# Altium footprint library 排针-排母.PcbLib: 177 footprints (part 10 of 12)
Each footprint in its own frame and in the unit in brackets; x right, y up, seen from the top. Pads: shape width x height; smd on the part's side, far side on the other; paste and mask are expansions set on the pad; w line width, h text height; cw(c..) or ccw(c..) is an arc to the next point about the centre after c.
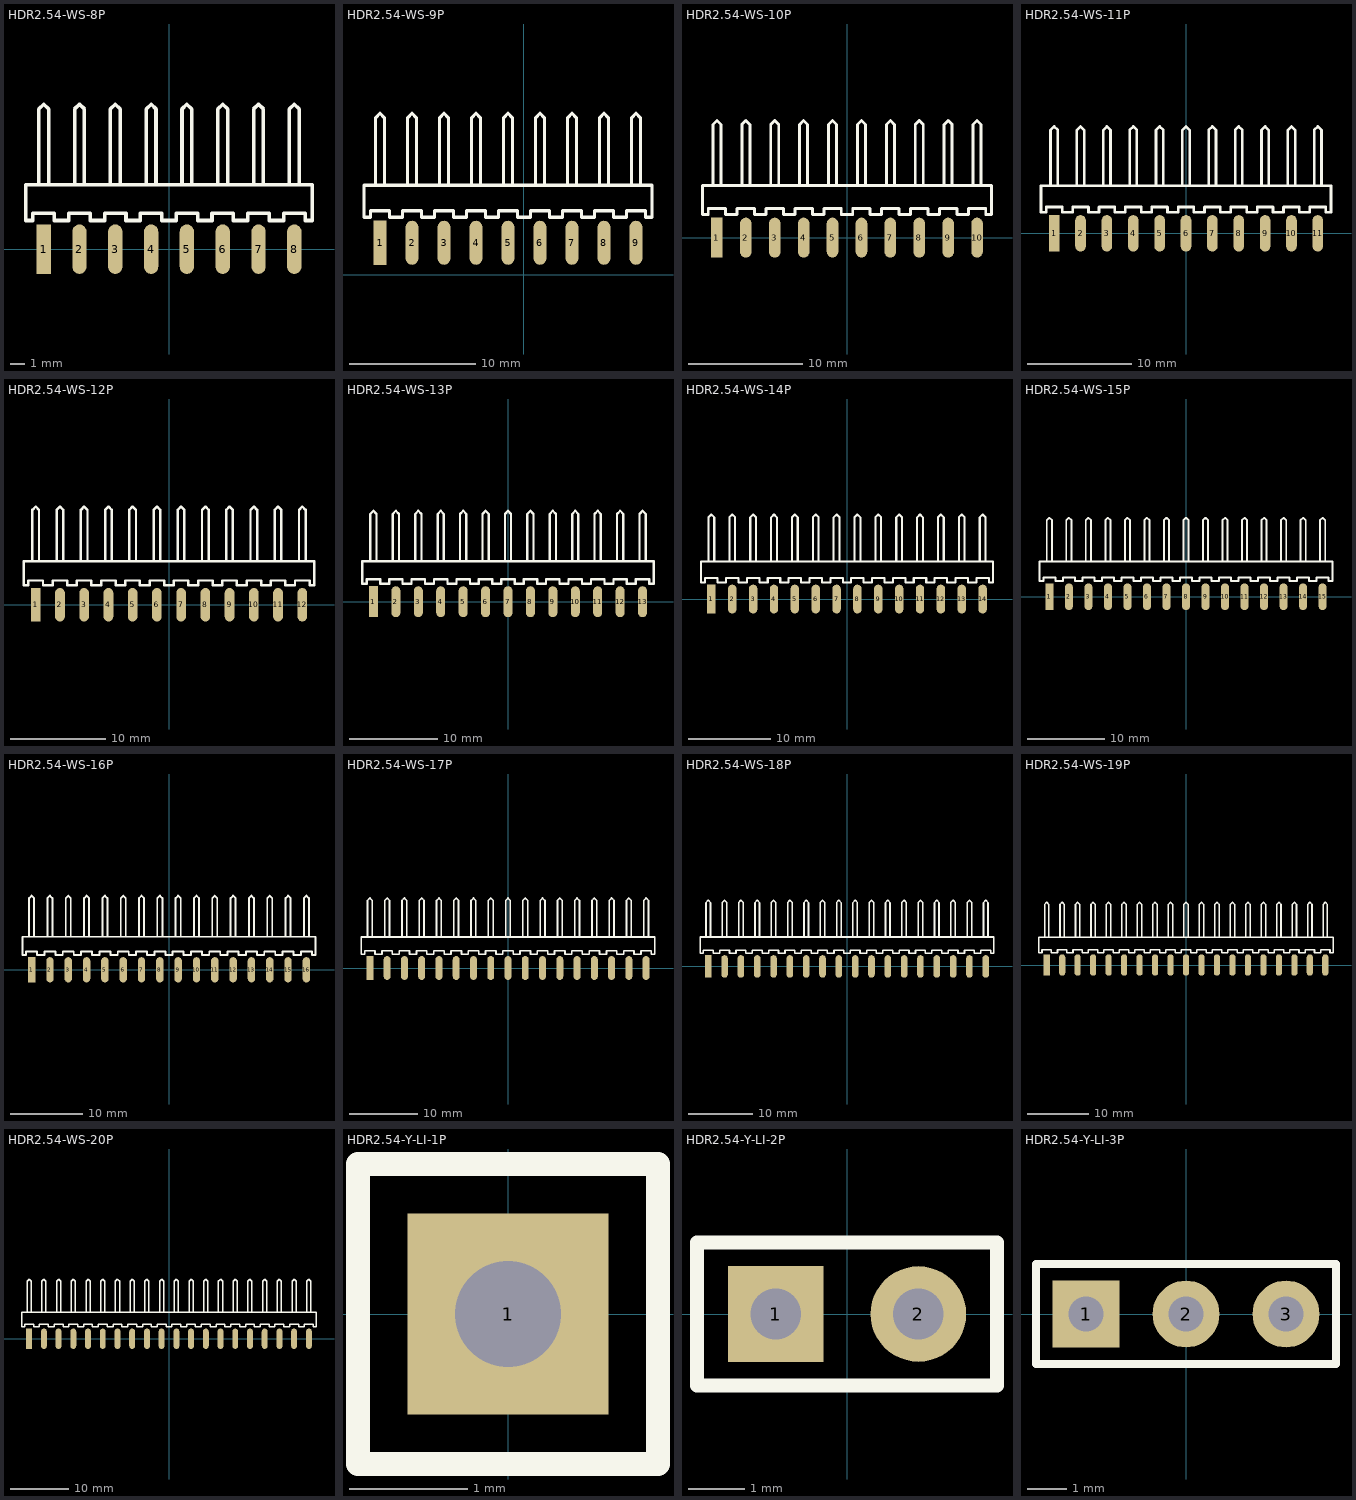
[diagram p9: the footprints below, top view; thin cyan lines are the x and y axes]

## HDR2.54-WS-8P [mm] "8P卧式贴片排针2.54"
pads (8):
  rect 1.02x3.5 smd: 1(-8.89,0)
  oval 1.02x3.5 smd: 2(-6.35,0) 3(-3.81,0) 4(-1.27,0) 5(1.27,0) 6(3.81,0) 7(6.35,0) 8(8.89,0)
Top Overlay:
  lines w0.254: -9.24,4.572 -9.24,9.8 -9.24,9.937 -8.89,10.287 -8.54,9.937 -8.54,9.8 -8.54,4.572 ; -6.7,4.572 -6.7,9.8 -6.7,9.937 -6.35,10.287 -6,9.937 -6,9.8 -6,4.572 ; -4.16,4.572 -4.16,9.8 -4.16,9.937 -3.81,10.287 -3.46,9.937 -3.46,9.8 -3.46,4.572 ; -1.62,4.572 -1.62,9.8 -1.62,9.937 -1.27,10.287 -0.92,9.937 -0.92,9.8 -0.92,4.572 ; 0.92,4.572 0.92,9.8 0.92,9.937 1.27,10.287 1.62,9.937 1.62,9.8 1.62,4.572 ; 3.46,4.572 3.46,9.8 3.46,9.937 3.81,10.287 4.16,9.937 4.16,9.8 4.16,4.572 ; 6,4.572 6,9.8 6,9.937 6.35,10.287 6.7,9.937 6.7,9.8 6.7,4.572 ; 8.54,4.572 8.54,9.8 8.54,9.937 8.89,10.287 9.24,9.937 9.24,9.8 9.24,4.572 ; -10.16,2.032 -9.652,2.032 -9.652,2.54 -8.382,2.54 -8.128,2.54 -8.128,2.032 -7.62,2.032 -7.112,2.032 -7.112,2.54 -5.842,2.54 -5.588,2.54 -5.588,2.032 -5.08,2.032 -4.572,2.032 -4.572,2.54 -3.302,2.54 -3.048,2.54 -3.048,2.032 -2.54,2.032 -2.032,2.032 -2.032,2.54 -0.762,2.54 -0.508,2.54 -0.508,2.032 0,2.032 0.508,2.032 0.508,2.54 1.778,2.54 2.032,2.54 2.032,2.032 2.54,2.032 3.048,2.032 3.048,2.54 4.318,2.54 4.572,2.54 4.572,2.032 5.08,2.032 5.588,2.032 5.588,2.54 6.858,2.54 7.112,2.54 7.112,2.032 7.62,2.032 8.128,2.032 8.128,2.54 9.398,2.54 9.652,2.54 9.652,2.032 10.16,2.032 10.16,4.572 7.62,4.572 5.08,4.572 2.54,4.572 0,4.572 -2.54,4.572 -5.08,4.572 -7.62,4.572 -10.16,4.572 -10.16,2.032
3D body: height 2.54, standoff -0.01, extent 0,-0.76 2.54,10.34
3D body: height 2.54, standoff -0.01, extent -2.54,-0.76 0,10.34
3D body: height 2.54, standoff -0.01, extent -5.08,-0.76 -2.54,10.34
3D body: height 2.54, standoff -0.01, extent -7.62,-0.76 -5.08,10.34
3D body: height 2.54, standoff -0.01, extent -10.16,-0.76 -7.62,10.34
3D body: height 2.54, standoff -0.01, extent 2.54,-0.76 5.08,10.34
3D body: height 2.54, standoff -0.01, extent 5.08,-0.76 7.62,10.34
3D body: height 2.54, standoff -0.01, extent 7.62,-0.76 10.16,10.34

## HDR2.54-WS-9P [mm] "9P卧式贴片排针2.54"
pads (9):
  rect 1.02x3.5 smd: 1(-11.43,2.54)
  oval 1.02x3.5 smd: 2(-8.89,2.54) 3(-6.35,2.54) 4(-3.81,2.54) 5(-1.27,2.54) 6(1.27,2.54) 7(3.81,2.54) 8(6.35,2.54) 9(8.89,2.54)
Top Overlay:
  lines w0.254: -11.78,7.112 -11.78,12.34 -11.78,12.477 -11.43,12.827 -11.08,12.477 -11.08,12.34 -11.08,7.112 ; -9.24,7.112 -9.24,12.34 -9.24,12.477 -8.89,12.827 -8.54,12.477 -8.54,12.34 -8.54,7.112 ; -6.7,7.112 -6.7,12.34 -6.7,12.477 -6.35,12.827 -6,12.477 -6,12.34 -6,7.112 ; -4.16,7.112 -4.16,12.34 -4.16,12.477 -3.81,12.827 -3.46,12.477 -3.46,12.34 -3.46,7.112 ; -1.62,7.112 -1.62,12.34 -1.62,12.477 -1.27,12.827 -0.92,12.477 -0.92,12.34 -0.92,7.112 ; 0.92,7.112 0.92,12.34 0.92,12.477 1.27,12.827 1.62,12.477 1.62,12.34 1.62,7.112 ; 3.46,7.112 3.46,12.34 3.46,12.477 3.81,12.827 4.16,12.477 4.16,12.34 4.16,7.112 ; 6,7.112 6,12.34 6,12.477 6.35,12.827 6.7,12.477 6.7,12.34 6.7,7.112 ; 8.54,7.112 8.54,12.34 8.54,12.477 8.89,12.827 9.24,12.477 9.24,12.34 9.24,7.112 ; -12.7,4.572 -12.7,7.112 -10.16,7.112 -7.62,7.112 -5.08,7.112 -2.54,7.112 0,7.112 2.54,7.112 5.08,7.112 7.62,7.112 10.16,7.112 10.16,4.572 9.652,4.572 9.652,5.08 9.398,5.08 8.128,5.08 8.128,4.572 7.62,4.572 7.112,4.572 7.112,5.08 6.858,5.08 5.588,5.08 5.588,4.572 5.08,4.572 4.572,4.572 4.572,5.08 4.318,5.08 3.048,5.08 3.048,4.572 2.54,4.572 2.032,4.572 2.032,5.08 1.778,5.08 0.508,5.08 0.508,4.572 0,4.572 -0.508,4.572 -0.508,5.08 -0.762,5.08 -2.032,5.08 -2.032,4.572 -2.54,4.572 -3.048,4.572 -3.048,5.08 -3.302,5.08 -4.572,5.08 -4.572,4.572 -5.08,4.572 -5.588,4.572 -5.588,5.08 -5.842,5.08 -7.112,5.08 -7.112,4.572 -7.62,4.572 -8.128,4.572 -8.128,5.08 -8.382,5.08 -9.652,5.08 -9.652,4.572 -10.16,4.572 -10.668,4.572 -10.668,5.08 -10.922,5.08 -12.192,5.08 -12.192,4.572 -12.7,4.572
3D body: height 2.54, standoff -0.01, extent 7.62,1.78 10.16,12.88
3D body: height 2.54, standoff -0.01, extent 5.08,1.78 7.62,12.88
3D body: height 2.54, standoff -0.01, extent 2.54,1.78 5.08,12.88
3D body: height 2.54, standoff -0.01, extent 0,1.78 2.54,12.88
3D body: height 2.54, standoff -0.01, extent -12.7,1.78 -10.16,12.88
3D body: height 2.54, standoff -0.01, extent -10.16,1.78 -7.62,12.88
3D body: height 2.54, standoff -0.01, extent -7.62,1.78 -5.08,12.88
3D body: height 2.54, standoff -0.01, extent -5.08,1.78 -2.54,12.88
3D body: height 2.54, standoff -0.01, extent -2.54,1.78 0,12.88

## HDR2.54-WS-10P [mm] "10P卧式贴片排针2.54"
pads (10):
  rect 1.02x3.5 smd: 1(-11.43,0)
  oval 1.02x3.5 smd: 2(-8.89,0) 3(-6.35,0) 4(-3.81,0) 5(-1.27,0) 6(1.27,0) 7(3.81,0) 8(6.35,0) 9(8.89,0) 10(11.43,0)
Top Overlay:
  lines w0.254: -11.78,4.572 -11.78,9.8 -11.78,9.937 -11.43,10.287 -11.08,9.937 -11.08,9.8 -11.08,4.572 ; -9.24,4.572 -9.24,9.8 -9.24,9.937 -8.89,10.287 -8.54,9.937 -8.54,9.8 -8.54,4.572 ; -6.7,4.572 -6.7,9.8 -6.7,9.937 -6.35,10.287 -6,9.937 -6,9.8 -6,4.572 ; -4.16,4.572 -4.16,9.8 -4.16,9.937 -3.81,10.287 -3.46,9.937 -3.46,9.8 -3.46,4.572 ; -1.62,4.572 -1.62,9.8 -1.62,9.937 -1.27,10.287 -0.92,9.937 -0.92,9.8 -0.92,4.572 ; 0.92,4.572 0.92,9.8 0.92,9.937 1.27,10.287 1.62,9.937 1.62,9.8 1.62,4.572 ; 3.46,4.572 3.46,9.8 3.46,9.937 3.81,10.287 4.16,9.937 4.16,9.8 4.16,4.572 ; 6,4.572 6,9.8 6,9.937 6.35,10.287 6.7,9.937 6.7,9.8 6.7,4.572 ; 8.54,4.572 8.54,9.8 8.54,9.937 8.89,10.287 9.24,9.937 9.24,9.8 9.24,4.572 ; 11.08,4.572 11.08,9.8 11.08,9.937 11.43,10.287 11.78,9.937 11.78,9.8 11.78,4.572 ; -12.7,2.032 -12.7,4.572 -10.16,4.572 -7.62,4.572 -5.08,4.572 -2.54,4.572 0,4.572 2.54,4.572 5.08,4.572 7.62,4.572 10.16,4.572 12.7,4.572 12.7,2.032 12.192,2.032 12.192,2.54 11.938,2.54 10.668,2.54 10.668,2.032 10.16,2.032 9.652,2.032 9.652,2.54 9.398,2.54 8.128,2.54 8.128,2.032 7.62,2.032 7.112,2.032 7.112,2.54 6.858,2.54 5.588,2.54 5.588,2.032 5.08,2.032 4.572,2.032 4.572,2.54 4.318,2.54 3.048,2.54 3.048,2.032 2.54,2.032 2.032,2.032 2.032,2.54 1.778,2.54 0.508,2.54 0.508,2.032 0,2.032 -0.508,2.032 -0.508,2.54 -0.762,2.54 -2.032,2.54 -2.032,2.032 -2.54,2.032 -3.048,2.032 -3.048,2.54 -3.302,2.54 -4.572,2.54 -4.572,2.032 -5.08,2.032 -5.588,2.032 -5.588,2.54 -5.842,2.54 -7.112,2.54 -7.112,2.032 -7.62,2.032 -8.128,2.032 -8.128,2.54 -8.382,2.54 -9.652,2.54 -9.652,2.032 -10.16,2.032 -10.668,2.032 -10.668,2.54 -10.922,2.54 -12.192,2.54 -12.192,2.032 -12.7,2.032
3D body: height 2.54, standoff -0.01, extent 10.16,-0.76 12.7,10.34
3D body: height 2.54, standoff -0.01, extent 7.62,-0.76 10.16,10.34
3D body: height 2.54, standoff -0.01, extent 5.08,-0.76 7.62,10.34
3D body: height 2.54, standoff -0.01, extent 2.54,-0.76 5.08,10.34
3D body: height 2.54, standoff -0.01, extent 0,-0.76 2.54,10.34
3D body: height 2.54, standoff -0.01, extent -12.7,-0.76 -10.16,10.34
3D body: height 2.54, standoff -0.01, extent -10.16,-0.76 -7.62,10.34
3D body: height 2.54, standoff -0.01, extent -7.62,-0.76 -5.08,10.34
3D body: height 2.54, standoff -0.01, extent -5.08,-0.76 -2.54,10.34
3D body: height 2.54, standoff -0.01, extent -2.54,-0.76 0,10.34

## HDR2.54-WS-11P [mm] "11P卧式贴片排针2.54"
pads (11):
  rect 1.02x3.5 smd: 1(-12.7,0)
  oval 1.02x3.5 smd: 2(-10.16,0) 3(-7.62,0) 4(-5.08,0) 5(-2.54,0) 6(0,0) 7(2.54,0) 8(5.08,0) 9(7.62,0) 10(10.16,0) 11(12.7,0)
Top Overlay:
  lines w0.254: -13.05,4.572 -13.05,9.8 -13.05,9.937 -12.7,10.287 -12.35,9.937 -12.35,9.8 -12.35,4.572 ; -10.51,4.572 -10.51,9.8 -10.51,9.937 -10.16,10.287 -9.81,9.937 -9.81,9.8 -9.81,4.572 ; -7.97,4.572 -7.97,9.8 -7.97,9.937 -7.62,10.287 -7.27,9.937 -7.27,9.8 -7.27,4.572 ; -5.43,4.572 -5.43,9.8 -5.43,9.937 -5.08,10.287 -4.73,9.937 -4.73,9.8 -4.73,4.572 ; -2.89,4.572 -2.89,9.8 -2.89,9.937 -2.54,10.287 -2.19,9.937 -2.19,9.8 -2.19,4.572 ; -0.35,4.572 -0.35,9.8 -0.35,9.937 0,10.287 0.35,9.937 0.35,9.8 0.35,4.572 ; 2.19,4.572 2.19,9.8 2.19,9.937 2.54,10.287 2.89,9.937 2.89,9.8 2.89,4.572 ; 4.73,4.572 4.73,9.8 4.73,9.937 5.08,10.287 5.43,9.937 5.43,9.8 5.43,4.572 ; 7.27,4.572 7.27,9.8 7.27,9.937 7.62,10.287 7.97,9.937 7.97,9.8 7.97,4.572 ; 9.81,4.572 9.81,9.8 9.81,9.937 10.16,10.287 10.51,9.937 10.51,9.8 10.51,4.572 ; 12.35,4.572 12.35,9.8 12.35,9.937 12.7,10.287 13.05,9.937 13.05,9.8 13.05,4.572 ; -13.97,2.032 -13.97,4.572 -11.43,4.572 -8.89,4.572 -6.35,4.572 -3.81,4.572 -1.27,4.572 1.27,4.572 3.81,4.572 6.35,4.572 8.89,4.572 11.43,4.572 13.97,4.572 13.97,2.032 13.462,2.032 13.462,2.54 13.208,2.54 11.938,2.54 11.938,2.032 11.43,2.032 10.922,2.032 10.922,2.54 10.668,2.54 9.398,2.54 9.398,2.032 8.89,2.032 8.382,2.032 8.382,2.54 8.128,2.54 6.858,2.54 6.858,2.032 6.35,2.032 5.842,2.032 5.842,2.54 5.588,2.54 4.318,2.54 4.318,2.032 3.81,2.032 3.302,2.032 3.302,2.54 3.048,2.54 1.778,2.54 1.778,2.032 1.27,2.032 0.762,2.032 0.762,2.54 0.508,2.54 -0.762,2.54 -0.762,2.032 -1.27,2.032 -1.778,2.032 -1.778,2.54 -2.032,2.54 -3.302,2.54 -3.302,2.032 -3.81,2.032 -4.318,2.032 -4.318,2.54 -4.572,2.54 -5.842,2.54 -5.842,2.032 -6.35,2.032 -6.858,2.032 -6.858,2.54 -7.112,2.54 -8.382,2.54 -8.382,2.032 -8.89,2.032 -9.398,2.032 -9.398,2.54 -9.652,2.54 -10.922,2.54 -10.922,2.032 -11.43,2.032 -11.938,2.032 -11.938,2.54 -12.192,2.54 -13.462,2.54 -13.462,2.032 -13.97,2.032
3D body: height 2.54, standoff -0.01, extent 11.43,-0.76 13.97,10.34
3D body: height 2.54, standoff -0.01, extent 8.89,-0.76 11.43,10.34
3D body: height 2.54, standoff -0.01, extent 6.35,-0.76 8.89,10.34
3D body: height 2.54, standoff -0.01, extent 3.81,-0.76 6.35,10.34
3D body: height 2.54, standoff -0.01, extent 1.27,-0.76 3.81,10.34
3D body: height 2.54, standoff -0.01, extent -1.27,-0.76 1.27,10.34
3D body: height 2.54, standoff -0.01, extent -13.97,-0.76 -11.43,10.34
3D body: height 2.54, standoff -0.01, extent -11.43,-0.76 -8.89,10.34
3D body: height 2.54, standoff -0.01, extent -8.89,-0.76 -6.35,10.34
3D body: height 2.54, standoff -0.01, extent -6.35,-0.76 -3.81,10.34
3D body: height 2.54, standoff -0.01, extent -3.81,-0.76 -1.27,10.34

## HDR2.54-WS-12P [mm] "12P卧式贴片排针2.54"
pads (12):
  rect 1.02x3.5 smd: 1(-13.97,0)
  oval 1.02x3.5 smd: 2(-11.43,0) 3(-8.89,0) 4(-6.35,0) 5(-3.81,0) 6(-1.27,0) 7(1.27,0) 8(3.81,0) 9(6.35,0) 10(8.89,0) 11(11.43,0) 12(13.97,0)
Top Overlay:
  drawing of 158 lines, arcs and shapes, not listed
3D body: height 2.54, standoff -0.01, extent 12.7,-0.76 15.24,10.34
3D body: height 2.54, standoff -0.01, extent 10.16,-0.76 12.7,10.34
3D body: height 2.54, standoff -0.01, extent 7.62,-0.76 10.16,10.34
3D body: height 2.54, standoff -0.01, extent 5.08,-0.76 7.62,10.34
3D body: height 2.54, standoff -0.01, extent 2.54,-0.76 5.08,10.34
3D body: height 2.54, standoff -0.01, extent 0,-0.76 2.54,10.34
3D body: height 2.54, standoff -0.01, extent -2.54,-0.76 0,10.34
3D body: height 2.54, standoff -0.01, extent -15.24,-0.76 -12.7,10.34
3D body: height 2.54, standoff -0.01, extent -12.7,-0.76 -10.16,10.34
3D body: height 2.54, standoff -0.01, extent -10.16,-0.76 -7.62,10.34
3D body: height 2.54, standoff -0.01, extent -7.62,-0.76 -5.08,10.34
3D body: height 2.54, standoff -0.01, extent -5.08,-0.76 -2.54,10.34

## HDR2.54-WS-13P [mm] "13P卧式贴片排针2.54"
pads (13):
  rect 1.02x3.5 smd: 1(-15.24,0)
  oval 1.02x3.5 smd: 2(-12.7,0) 3(-10.16,0) 4(-7.62,0) 5(-5.08,0) 6(-2.54,0) 7(0,0) 8(2.54,0) 9(5.08,0) 10(7.62,0) 11(10.16,0) 12(12.7,0) 13(15.24,0)
Top Overlay:
  drawing of 171 lines, arcs and shapes, not listed
3D body: height 2.54, standoff -0.01, extent 13.97,-0.76 16.51,10.34
3D body: height 2.54, standoff -0.01, extent 11.43,-0.76 13.97,10.34
3D body: height 2.54, standoff -0.01, extent 8.89,-0.76 11.43,10.34
3D body: height 2.54, standoff -0.01, extent 6.35,-0.76 8.89,10.34
3D body: height 2.54, standoff -0.01, extent 3.81,-0.76 6.35,10.34
3D body: height 2.54, standoff -0.01, extent 1.27,-0.76 3.81,10.34
3D body: height 2.54, standoff -0.01, extent -1.27,-0.76 1.27,10.34
3D body: height 2.54, standoff -0.01, extent -3.81,-0.76 -1.27,10.34
3D body: height 2.54, standoff -0.01, extent -16.51,-0.76 -13.97,10.34
3D body: height 2.54, standoff -0.01, extent -13.97,-0.76 -11.43,10.34
3D body: height 2.54, standoff -0.01, extent -11.43,-0.76 -8.89,10.34
3D body: height 2.54, standoff -0.01, extent -8.89,-0.76 -6.35,10.34
3D body: height 2.54, standoff -0.01, extent -6.35,-0.76 -3.81,10.34

## HDR2.54-WS-14P [mm] "14P卧式贴片排针2.54"
pads (14):
  rect 1.02x3.5 smd: 1(-16.51,0)
  oval 1.02x3.5 smd: 2(-13.97,0) 3(-11.43,0) 4(-8.89,0) 5(-6.35,0) 6(-3.81,0) 7(-1.27,0) 8(1.27,0) 9(3.81,0) 10(6.35,0) 11(8.89,0) 12(11.43,0) 13(13.97,0) 14(16.51,0)
Top Overlay:
  drawing of 184 lines, arcs and shapes, not listed
3D body: height 2.54, standoff -0.01, extent 12.7,-0.76 15.24,10.34
3D body: height 2.54, standoff -0.01, extent 10.16,-0.76 12.7,10.34
3D body: height 2.54, standoff -0.01, extent 7.62,-0.76 10.16,10.34
3D body: height 2.54, standoff -0.01, extent 5.08,-0.76 7.62,10.34
3D body: height 2.54, standoff -0.01, extent 2.54,-0.76 5.08,10.34
3D body: height 2.54, standoff -0.01, extent 0,-0.76 2.54,10.34
3D body: height 2.54, standoff -0.01, extent -2.54,-0.76 0,10.34
3D body: height 2.54, standoff -0.01, extent -5.08,-0.76 -2.54,10.34
3D body: height 2.54, standoff -0.01, extent -17.78,-0.76 -15.24,10.34
3D body: height 2.54, standoff -0.01, extent -15.24,-0.76 -12.7,10.34
3D body: height 2.54, standoff -0.01, extent -12.7,-0.76 -10.16,10.34
3D body: height 2.54, standoff -0.01, extent -10.16,-0.76 -7.62,10.34
3D body: height 2.54, standoff -0.01, extent -7.62,-0.76 -5.08,10.34
3D body: height 2.54, standoff -0.01, extent 15.24,-0.76 17.78,10.34

## HDR2.54-WS-15P [mm] "15P卧式贴片排针2.54"
pads (15):
  rect 1.02x3.5 smd: 1(-17.78,0)
  oval 1.02x3.5 smd: 2(-15.24,0) 3(-12.7,0) 4(-10.16,0) 5(-7.62,0) 6(-5.08,0) 7(-2.54,0) 8(0,0) 9(2.54,0) 10(5.08,0) 11(7.62,0) 12(10.16,0) 13(12.7,0) 14(15.24,0) 15(17.78,0)
Top Overlay:
  drawing of 197 lines, arcs and shapes, not listed
3D body: height 2.54, standoff -0.01, extent 16.51,-0.76 19.05,10.34
3D body: height 2.54, standoff -0.01, extent 11.43,-0.76 13.97,10.34
3D body: height 2.54, standoff -0.01, extent 8.89,-0.76 11.43,10.34
3D body: height 2.54, standoff -0.01, extent 6.35,-0.76 8.89,10.34
3D body: height 2.54, standoff -0.01, extent 3.81,-0.76 6.35,10.34
3D body: height 2.54, standoff -0.01, extent 1.27,-0.76 3.81,10.34
3D body: height 2.54, standoff -0.01, extent -1.27,-0.76 1.27,10.34
3D body: height 2.54, standoff -0.01, extent -3.81,-0.76 -1.27,10.34
3D body: height 2.54, standoff -0.01, extent -6.35,-0.76 -3.81,10.34
3D body: height 2.54, standoff -0.01, extent -19.05,-0.76 -16.51,10.34
3D body: height 2.54, standoff -0.01, extent -16.51,-0.76 -13.97,10.34
3D body: height 2.54, standoff -0.01, extent -13.97,-0.76 -11.43,10.34
3D body: height 2.54, standoff -0.01, extent -11.43,-0.76 -8.89,10.34
3D body: height 2.54, standoff -0.01, extent -8.89,-0.76 -6.35,10.34
3D body: height 2.54, standoff -0.01, extent 13.97,-0.76 16.51,10.34

## HDR2.54-WS-16P [mm] "16P卧式贴片排针2.54"
pads (16):
  rect 1.02x3.5 smd: 1(-19.05,0)
  oval 1.02x3.5 smd: 2(-16.51,0) 3(-13.97,0) 4(-11.43,0) 5(-8.89,0) 6(-6.35,0) 7(-3.81,0) 8(-1.27,0) 9(1.27,0) 10(3.81,0) 11(6.35,0) 12(8.89,0) 13(11.43,0) 14(13.97,0) 15(16.51,0) 16(19.05,0)
Top Overlay:
  drawing of 210 lines, arcs and shapes, not listed
3D body: height 2.54, standoff -0.01, extent 17.78,-0.76 20.32,10.34
3D body: height 2.54, standoff -0.01, extent 15.24,-0.76 17.78,10.34
3D body: height 2.54, standoff -0.01, extent 10.16,-0.76 12.7,10.34
3D body: height 2.54, standoff -0.01, extent 7.62,-0.76 10.16,10.34
3D body: height 2.54, standoff -0.01, extent 5.08,-0.76 7.62,10.34
3D body: height 2.54, standoff -0.01, extent 2.54,-0.76 5.08,10.34
3D body: height 2.54, standoff -0.01, extent 0,-0.76 2.54,10.34
3D body: height 2.54, standoff -0.01, extent -2.54,-0.76 0,10.34
3D body: height 2.54, standoff -0.01, extent -5.08,-0.76 -2.54,10.34
3D body: height 2.54, standoff -0.01, extent -7.62,-0.76 -5.08,10.34
3D body: height 2.54, standoff -0.01, extent -20.32,-0.76 -17.78,10.34
3D body: height 2.54, standoff -0.01, extent -17.78,-0.76 -15.24,10.34
3D body: height 2.54, standoff -0.01, extent -15.24,-0.76 -12.7,10.34
3D body: height 2.54, standoff -0.01, extent -12.7,-0.76 -10.16,10.34
3D body: height 2.54, standoff -0.01, extent -10.16,-0.76 -7.62,10.34
3D body: height 2.54, standoff -0.01, extent 12.7,-0.76 15.24,10.34

## HDR2.54-WS-17P [mm] "17P卧式贴片排针2.54"
pads (17):
  rect 1.02x3.5 smd: 1(-20.32,0)
  oval 1.02x3.5 smd: 2(-17.78,0) 3(-15.24,0) 4(-12.7,0) 5(-10.16,0) 6(-7.62,0) 7(-5.08,0) 8(-2.54,0) 9(0,0) 10(2.54,0) 11(5.08,0) 12(7.62,0) 13(10.16,0) 14(12.7,0) 15(15.24,0) 16(17.78,0) 17(20.32,0)
Top Overlay:
  drawing of 223 lines, arcs and shapes, not listed
3D body: height 2.54, standoff -0.01, extent 19.05,-0.76 21.59,10.34
3D body: height 2.54, standoff -0.01, extent 16.51,-0.76 19.05,10.34
3D body: height 2.54, standoff -0.01, extent 13.97,-0.76 16.51,10.34
3D body: height 2.54, standoff -0.01, extent 8.89,-0.76 11.43,10.34
3D body: height 2.54, standoff -0.01, extent 6.35,-0.76 8.89,10.34
3D body: height 2.54, standoff -0.01, extent 3.81,-0.76 6.35,10.34
3D body: height 2.54, standoff -0.01, extent 1.27,-0.76 3.81,10.34
3D body: height 2.54, standoff -0.01, extent -1.27,-0.76 1.27,10.34
3D body: height 2.54, standoff -0.01, extent -3.81,-0.76 -1.27,10.34
3D body: height 2.54, standoff -0.01, extent -6.35,-0.76 -3.81,10.34
3D body: height 2.54, standoff -0.01, extent -8.89,-0.76 -6.35,10.34
3D body: height 2.54, standoff -0.01, extent -21.59,-0.76 -19.05,10.34
3D body: height 2.54, standoff -0.01, extent -19.05,-0.76 -16.51,10.34
3D body: height 2.54, standoff -0.01, extent -16.51,-0.76 -13.97,10.34
3D body: height 2.54, standoff -0.01, extent -13.97,-0.76 -11.43,10.34
3D body: height 2.54, standoff -0.01, extent -11.43,-0.76 -8.89,10.34
3D body: height 2.54, standoff -0.01, extent 11.43,-0.76 13.97,10.34

## HDR2.54-WS-18P [mm] "18P卧式贴片排针2.54"
pads (18):
  rect 1.02x3.5 smd: 1(-21.59,0)
  oval 1.02x3.5 smd: 2(-19.05,0) 3(-16.51,0) 4(-13.97,0) 5(-11.43,0) 6(-8.89,0) 7(-6.35,0) 8(-3.81,0) 9(-1.27,0) 10(1.27,0) 11(3.81,0) 12(6.35,0) 13(8.89,0) 14(11.43,0) 15(13.97,0) 16(16.51,0) 17(19.05,0) 18(21.59,0)
Top Overlay:
  drawing of 236 lines, arcs and shapes, not listed
3D body: height 2.54, standoff -0.01, extent 20.32,-0.76 22.86,10.34
3D body: height 2.54, standoff -0.01, extent 17.78,-0.76 20.32,10.34
3D body: height 2.54, standoff -0.01, extent 15.24,-0.76 17.78,10.34
3D body: height 2.54, standoff -0.01, extent 12.7,-0.76 15.24,10.34
3D body: height 2.54, standoff -0.01, extent 7.62,-0.76 10.16,10.34
3D body: height 2.54, standoff -0.01, extent 5.08,-0.76 7.62,10.34
3D body: height 2.54, standoff -0.01, extent 2.54,-0.76 5.08,10.34
3D body: height 2.54, standoff -0.01, extent 0,-0.76 2.54,10.34
3D body: height 2.54, standoff -0.01, extent -2.54,-0.76 0,10.34
3D body: height 2.54, standoff -0.01, extent -5.08,-0.76 -2.54,10.34
3D body: height 2.54, standoff -0.01, extent -7.62,-0.76 -5.08,10.34
3D body: height 2.54, standoff -0.01, extent -10.16,-0.76 -7.62,10.34
3D body: height 2.54, standoff -0.01, extent -22.86,-0.76 -20.32,10.34
3D body: height 2.54, standoff -0.01, extent -20.32,-0.76 -17.78,10.34
3D body: height 2.54, standoff -0.01, extent -17.78,-0.76 -15.24,10.34
3D body: height 2.54, standoff -0.01, extent -15.24,-0.76 -12.7,10.34
3D body: height 2.54, standoff -0.01, extent -12.7,-0.76 -10.16,10.34
3D body: height 2.54, standoff -0.01, extent 10.16,-0.76 12.7,10.34

## HDR2.54-WS-19P [mm] "19P卧式贴片排针2.54"
pads (19):
  rect 1.02x3.5 smd: 1(-22.86,0)
  oval 1.02x3.5 smd: 2(-20.32,0) 3(-17.78,0) 4(-15.24,0) 5(-12.7,0) 6(-10.16,0) 7(-7.62,0) 8(-5.08,0) 9(-2.54,0) 10(0,0) 11(2.54,0) 12(5.08,0) 13(7.62,0) 14(10.16,0) 15(12.7,0) 16(15.24,0) 17(17.78,0) 18(20.32,0) 19(22.86,0)
Top Overlay:
  drawing of 249 lines, arcs and shapes, not listed
3D body: height 2.54, standoff -0.01, extent 21.59,-0.76 24.13,10.34
3D body: height 2.54, standoff -0.01, extent 19.05,-0.76 21.59,10.34
3D body: height 2.54, standoff -0.01, extent 16.51,-0.76 19.05,10.34
3D body: height 2.54, standoff -0.01, extent 13.97,-0.76 16.51,10.34
3D body: height 2.54, standoff -0.01, extent 11.43,-0.76 13.97,10.34
3D body: height 2.54, standoff -0.01, extent 6.35,-0.76 8.89,10.34
3D body: height 2.54, standoff -0.01, extent 3.81,-0.76 6.35,10.34
3D body: height 2.54, standoff -0.01, extent 1.27,-0.76 3.81,10.34
3D body: height 2.54, standoff -0.01, extent -1.27,-0.76 1.27,10.34
3D body: height 2.54, standoff -0.01, extent -3.81,-0.76 -1.27,10.34
3D body: height 2.54, standoff -0.01, extent -6.35,-0.76 -3.81,10.34
3D body: height 2.54, standoff -0.01, extent -8.89,-0.76 -6.35,10.34
3D body: height 2.54, standoff -0.01, extent -11.43,-0.76 -8.89,10.34
3D body: height 2.54, standoff -0.01, extent -24.13,-0.76 -21.59,10.34
3D body: height 2.54, standoff -0.01, extent -21.59,-0.76 -19.05,10.34
3D body: height 2.54, standoff -0.01, extent -19.05,-0.76 -16.51,10.34
3D body: height 2.54, standoff -0.01, extent -16.51,-0.76 -13.97,10.34
3D body: height 2.54, standoff -0.01, extent -13.97,-0.76 -11.43,10.34
3D body: height 2.54, standoff -0.01, extent 8.89,-0.76 11.43,10.34

## HDR2.54-WS-20P [mm] "20P卧式贴片排针2.54"
pads (20):
  rect 1.02x3.5 smd: 1(-24.13,0)
  oval 1.02x3.5 smd: 2(-21.59,0) 3(-19.05,0) 4(-16.51,0) 5(-13.97,0) 6(-11.43,0) 7(-8.89,0) 8(-6.35,0) 9(-3.81,0) 10(-1.27,0) 11(1.27,0) 12(3.81,0) 13(6.35,0) 14(8.89,0) 15(11.43,0) 16(13.97,0) 17(16.51,0) 18(19.05,0) 19(21.59,0) 20(24.13,0)
Top Overlay:
  drawing of 262 lines, arcs and shapes, not listed
3D body: height 2.54, standoff -0.01, extent 20.32,-0.76 22.86,10.34
3D body: height 2.54, standoff -0.01, extent 17.78,-0.76 20.32,10.34
3D body: height 2.54, standoff -0.01, extent 15.24,-0.76 17.78,10.34
3D body: height 2.54, standoff -0.01, extent 12.7,-0.76 15.24,10.34
3D body: height 2.54, standoff -0.01, extent 10.16,-0.76 12.7,10.34
3D body: height 2.54, standoff -0.01, extent 5.08,-0.76 7.62,10.34
3D body: height 2.54, standoff -0.01, extent 2.54,-0.76 5.08,10.34
3D body: height 2.54, standoff -0.01, extent 0,-0.76 2.54,10.34
3D body: height 2.54, standoff -0.01, extent -2.54,-0.76 0,10.34
3D body: height 2.54, standoff -0.01, extent -5.08,-0.76 -2.54,10.34
3D body: height 2.54, standoff -0.01, extent -7.62,-0.76 -5.08,10.34
3D body: height 2.54, standoff -0.01, extent -10.16,-0.76 -7.62,10.34
3D body: height 2.54, standoff -0.01, extent -12.7,-0.76 -10.16,10.34
3D body: height 2.54, standoff -0.01, extent -25.4,-0.76 -22.86,10.34
3D body: height 2.54, standoff -0.01, extent -22.86,-0.76 -20.32,10.34
3D body: height 2.54, standoff -0.01, extent -20.32,-0.76 -17.78,10.34
3D body: height 2.54, standoff -0.01, extent -17.78,-0.76 -15.24,10.34
3D body: height 2.54, standoff -0.01, extent -15.24,-0.76 -12.7,10.34
3D body: height 2.54, standoff -0.01, extent 7.62,-0.76 10.16,10.34
3D body: height 2.54, standoff -0.01, extent 22.86,-0.76 25.4,10.34

## HDR2.54-Y-LI-1P [mm] "圆孔排母，1脚"
pads (1):
  rect 1.7x1.7 hole 0.9: 1(0,0)
Top Overlay:
  lines w0.2: -1.27,-1.27 1.27,-1.27 1.27,1.27 -1.27,1.27 -1.27,-1.27
3D body: height 4.31, standoff -3, extent -1.27,-1.27 1.27,1.27

## HDR2.54-Y-LI-2P [mm] "圆孔排母，2脚"
pads (2):
  rect 1.7x1.7 hole 0.9: 1(-1.27,0)
  round 1.7 hole 0.9: 2(1.27,0)
Top Overlay:
  lines w0.254: -2.667,-1.27 -2.667,1.27 2.667,1.27 2.667,-1.27 -2.667,-1.27
3D body: height 4.31, standoff -3, extent 0,-1.27 2.54,1.27
3D body: height 4.31, standoff -3, extent -2.54,-1.27 0,1.27

## HDR2.54-Y-LI-3P [mm] "圆孔排母，3脚"
pads (3):
  rect 1.7x1.7 hole 0.9: 1(-2.54,0)
  round 1.7 hole 0.9: 2(0,0) 3(2.54,0)
Top Overlay:
  lines w0.2: -3.81,-1.27 -3.81,1.27 3.81,1.27 3.81,-1.27 -3.81,-1.27
3D body: height 4.31, standoff -3, extent 1.27,-1.27 3.81,1.27
3D body: height 4.31, standoff -3, extent -1.27,-1.27 1.27,1.27
3D body: height 4.31, standoff -3, extent -3.81,-1.27 -1.27,1.27